# EAGLE library part CON-12P (library Connectors)
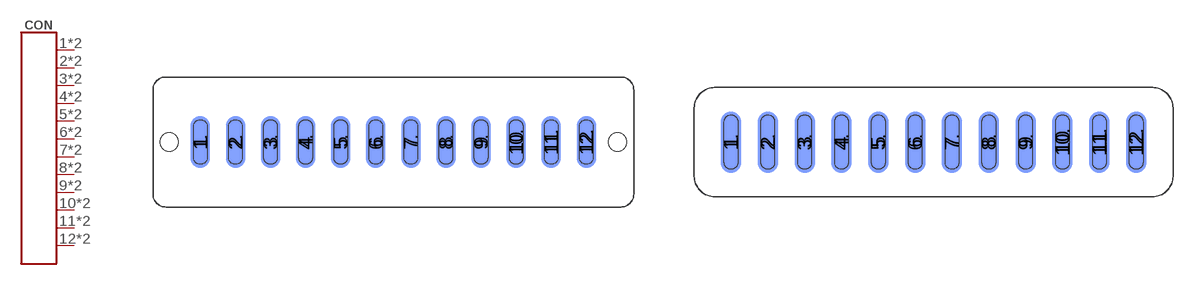
[diagram p28: symbol with the pads of ND-D27-12PIN-C-S1(FEMALE); footprints ND-D27-12PIN-C-S1(FEMALE), ND-D27M-12PIN-R1-R2(MALE)]

Designator prefix CON

## CON-12P-ND-D27 (LINK: https://aliexpress.ru/item/1005003022114979.html?spm=a2g2w.orderdetails.0.0.735a4aa6AzeFRf&sku_id=12000023279780956&_ga=2.259887305.2112414080.1665917557-550076064.1628593910; MANF: GIEXCEED; MANF#: ND-D27-12Pin-C-S1)  [ND-D27-12PIN-C-S1(FEMALE)]
1  1
1.  1
2  2
2.  2
3  3
3.  3
4  4
4.  4
5  5
5.  5
6  6
6.  6
7  7
7.  7
8  8
8.  8
9  9
9.  9
10  10
10.  10
11  11
11.  11
12  12
12.  12

## CON-12P-ND-D27M (MANF: GIEXCEED; MANF#: ND-D27M-12Pin-R1-R2)  [ND-D27M-12PIN-R1-R2(MALE)]
Pads as for ND-D27-12PIN-C-S1(FEMALE)

## CON-12P-JST-XA (LCSC#: C160310; MANF: JST Sales America; MANF#: B12B-XASK-1(LF)(SN))  [B12B-XASK-1]
1  1
2  2
3  3
4  4
5  5
6  6
7  7
8  8
9  9
10  10
11  11
12  12

## CON-12P-IDC (MANF: Connfly electronic; MANF#: DS1013-12S)  [DS1013-12S]
Pads as for B12B-XASK-1

## CON-12P-FDC (MANF: Connfly electronic; MANF#: DS1018-12)  [DS1018-12]
Pads as for B12B-XASK-1

## CON-12P-JST-XH (MANF: KLS electronic; MANF#: CWF-13R)  [CWF-12R]
Pads as for B12B-XASK-1

## Footprint ND-D27-12PIN-C-S1(FEMALE) (pad centres in mm)
smd 1.5 x 4: 1 -14.85,0; 2 -12.15,0; 3 -9.45,0; 4 -6.75,0; 5 -4.05,0; 6 -1.35,0; 7 1.35,0; 8 4.05,0; 9 6.75,0; 10 9.45,0; 11 12.15,0; 12 14.85,0
smd 1.5 x 4 bottom: 1. -14.85,0; 2. -12.15,0; 3. -9.45,0; 4. -6.75,0; 5. -4.05,0; 6. -1.35,0; 7. 1.35,0; 8. 4.05,0; 9. 6.75,0; 10. 9.45,0; 11. 12.15,0; 12. 14.85,0
hole 1.4 at -17.26,0
hole 1.4 at 17.26,0

## Footprint ND-D27M-12PIN-R1-R2(MALE) (pad centres in mm)
smd 1.5 x 4.5: 1 -14.85,0; 2 -12.15,0; 3 -9.45,0; 4 -6.75,0; 5 -4.05,0; 6 -1.35,0; 7 1.35,0; 8 4.05,0; 9 6.75,0; 10 9.45,0; 11 12.15,0; 12 14.85,0
smd 1.5 x 4.5 bottom: 1. -14.85,0; 2. -12.15,0; 3. -9.45,0; 4. -6.75,0; 5. -4.05,0; 6. -1.35,0; 7. 1.35,0; 8. 4.05,0; 9. 6.75,0; 10. 9.45,0; 11. 12.15,0; 12. 14.85,0

## Footprint B12B-XASK-1 (pad centres in mm)
Datasheet <https://datasheet.lcsc.com/lcsc/1811011929_JST-Sales-America-B04B-XASK-1-LF-SN_C264994.pdf>
drill 1 pad 1.6 square: 1 -13.75,0
drill 1 pad 1.6: 2 -11.25,0; 3 -8.75,0; 4 -6.25,0; 5 -3.75,0; 6 -1.25,0; 7 1.25,0; 8 3.75,0; 9 6.25,0; 10 8.75,0; 11 11.25,0; 12 13.75,0

## Footprint DS1013-12S (pad centres in mm)
Drawing <https://static.chipdip.ru/lib/463/DOC002463525.pdf> 3D model <https://grabcad.com/library/idc-connector-collection-2-54-mm-1>
drill 1.02 square: 1 -6.35,1.27
drill 1.02: 2 -6.35,-1.27; 3 -3.81,1.27; 4 -3.81,-1.27; 5 -1.27,1.27; 6 -1.27,-1.27; 7 1.27,1.27; 8 1.27,-1.27; 9 3.81,1.27; 10 3.81,-1.27; 11 6.35,1.27; 12 6.35,-1.27

## Footprint DS1018-12 (pad centres in mm)
Drawing <https://static.chipdip.ru/lib/463/DOC002463525.pdf>
drill 1.02 square: 1 -6.35,1.27
drill 1.02: 2 -6.35,-1.27; 3 -3.81,1.27; 4 -3.81,-1.27; 5 -1.27,1.27; 6 -1.27,-1.27; 7 1.27,1.27; 8 1.27,-1.27; 9 3.81,1.27; 10 3.81,-1.27; 11 6.35,1.27; 12 6.35,-1.27

## Footprint CWF-12R (pad centres in mm)
drill 1 pad 1.5 square: 1 -13.75,0
drill 1 pad 1.5: 2 -11.25,0; 3 -8.75,0; 4 -6.25,0; 5 -3.75,0; 6 -1.25,0; 7 1.25,0; 8 3.75,0; 9 6.25,0; 10 8.75,0; 11 11.25,0; 12 13.75,0